# Altium footprint library AltiumLive.PcbLib: 2 footprints
Each footprint in its own frame and in the unit in brackets; x right, y up, seen from the top. Pads: shape width x height; smd on the part's side, far side on the other; paste and mask are expansions set on the pad; w line width, h text height; cw(c..) or ccw(c..) is an arc to the next point about the centre after c.
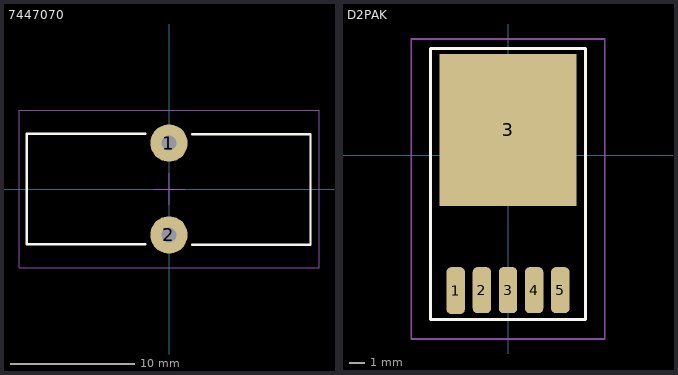
[diagram p0: the footprints below, top view; thin cyan lines are the x and y axes]

## 7447070 [mm] "0.984\" Dia x 0.433\" W (25.00mm x 11.00mm)"
height 25
pads (2):
  round 3 hole 1.2: 1(0,3.695) 2(0,-3.695)
Top Overlay:
  lines w0.2: -1.905,-4.445 -11.43,-4.445 -11.43,4.445 -1.905,4.445 ; 1.856,-4.489 11.381,-4.489 11.381,4.401 1.856,4.401
Mechanical 15:
  lines w0.1: -1.27,0 1.27,0 ; 0,-1.27 0,1.27 ; -12.065,-6.35 12.065,-6.35 12.065,6.35 -12.065,6.35 -12.065,-6.35
3D body "7447070_Download_STP_7447070_rev1.stp": height 22.08, standoff -14.1, extent -11.111,-4.195 11.111,4.195

## D2PAK [mm]
pads (6):
  rrect50% 1.2x3.075 smd: 1(-3.429,-8.89)
  rrect50% 1.2x3.015 smd: 2(-1.714,-8.86) 3(0,-8.86) 4(1.714,-8.86) 5(3.429,-8.86)
  rect 9x10 smd: 3(0,1.651)
Top Overlay:
  lines w0.2: -5.08,-10.795 -5.08,-3.175 -5.08,6.985 5.08,6.985 5.08,-10.795 -5.08,-10.795
Mechanical 15:
  lines w0.1: -1.524,0 1.524,0 ; 0,-1.524 0,1.524 ; -6.35,-12.065 -6.35,-2.032 -6.35,7.62 6.35,7.62 6.35,-12.065 -6.35,-12.065
3D body "TO263-5-1.stp": height 4.22, standoff 0, extent -4.911,-9.561 4.911,5.041